# EAGLE library part PCM1690DCA (library 2024-09-14_08-16-16_Library)
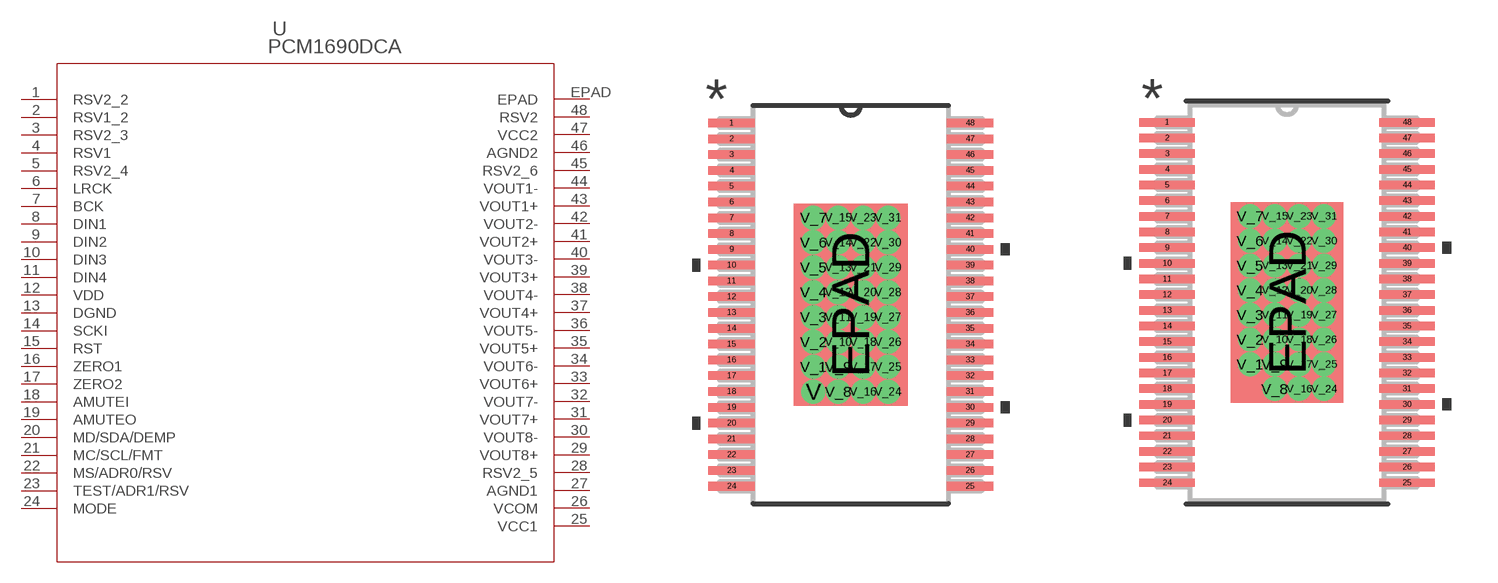
[diagram p0: symbol with the pads of DCA48_6P4X3P6; footprints DCA48_6P4X3P6, DCA48_6P4X3P6-M]

Designator prefix U

## PCM1690DCADCA48_6P4X3P6 (Copyright: Copyright (C) 2024 Ultra Librarian. All rights reserved.; Manufacturer_Part_Number: PCM1690DCA; Mfr_Name: Texas Instruments)  [DCA48_6P4X3P6]
1  RSV2_2  pas
2  RSV1_2  pas
3  RSV2_3  pas
4  RSV1  pas
5  RSV2_4  pas
6  LRCK  in
7  BCK  in
8  DIN1  in
9  DIN2  in
10  DIN3  in
11  DIN4  in
12  VDD  pwr
13  DGND  pwr
14  SCKI  in
15  RST  in
16  ZERO1  out
17  ZERO2  out
18  AMUTEI  in
19  AMUTEO  out
20  MD/SDA/DEMP
21  MC/SCL/FMT  in
22  MS/ADR0/RSV  in
23  TEST/ADR1/RSV
24  MODE  in
25  VCC1  pwr
26  VCOM  pwr
27  AGND1  pwr
28  RSV2_5  pas
29  VOUT8+  out
30  VOUT8-  out
31  VOUT7+  out
32  VOUT7-  out
33  VOUT6+  out
34  VOUT6-  out
35  VOUT5+  out
36  VOUT5-  out
37  VOUT4+  out
38  VOUT4-  out
39  VOUT3+  out
40  VOUT3-  out
41  VOUT2+  out
42  VOUT2-  out
43  VOUT1+  out
44  VOUT1-  out
45  RSV2_6  pas
46  AGND2  pwr
47  VCC2  pwr
48  RSV2  pas
EPAD  EPAD  pas

## PCM1690DCADCA48_6P4X3P6-M (Copyright: Copyright (C) 2024 Ultra Librarian. All rights reserved.; Manufacturer_Part_Number: PCM1690DCA; Mfr_Name: Texas Instruments)  [DCA48_6P4X3P6-M]
Pads as for DCA48_6P4X3P6

## PCM1690DCADCA48_6P4X3P6-L (Copyright: Copyright (C) 2024 Ultra Librarian. All rights reserved.; Manufacturer_Part_Number: PCM1690DCA; Mfr_Name: Texas Instruments)  [DCA48_6P4X3P6-L]
Pads as for DCA48_6P4X3P6

## Footprint DCA48_6P4X3P6 (pad centres in mm)
smd 1.461 x 0.27: 1 -3.775,5.75; 2 -3.775,5.25; 3 -3.775,4.75; 4 -3.775,4.25; 5 -3.775,3.75; 6 -3.775,3.25; 7 -3.775,2.75; 8 -3.775,2.25; 9 -3.775,1.75; 10 -3.775,1.25; 11 -3.775,0.75; 12 -3.775,0.25; 13 -3.775,-0.25; 14 -3.775,-0.75; 15 -3.775,-1.25; 16 -3.775,-1.75; 17 -3.775,-2.25; 18 -3.775,-2.75; 19 -3.775,-3.25; 20 -3.775,-3.75; 21 -3.775,-4.25; 22 -3.775,-4.75; 23 -3.775,-5.25; 24 -3.775,-5.75; 25 3.775,-5.75; 26 3.775,-5.25; 27 3.775,-4.75; 28 3.775,-4.25; 29 3.775,-3.75; 30 3.775,-3.25; 31 3.775,-2.75; 32 3.775,-2.25; 33 3.775,-1.75; 34 3.775,-1.25; 35 3.775,-0.75; 36 3.775,-0.25; 37 3.775,0.25; 38 3.775,0.75; 39 3.775,1.25; 40 3.775,1.75; 41 3.775,2.25; 42 3.775,2.75; 43 3.775,3.25; 44 3.775,3.75; 45 3.775,4.25; 46 3.775,4.75; 47 3.775,5.25; 48 3.775,5.75
smd 3.6 x 6.4: EPAD 0,0
drill 0.254 pad 0.508 round: V -1.181,-2.756; V_1 -1.181,-1.968; V_2 -1.181,-1.181; V_3 -1.181,-0.394; V_4 -1.181,0.394; V_5 -1.181,1.181; V_6 -1.181,1.968; V_7 -1.181,2.756; V_8 -0.394,-2.756; V_9 -0.394,-1.968; V_10 -0.394,-1.181; V_11 -0.394,-0.394; V_12 -0.394,0.394; V_13 -0.394,1.181; V_14 -0.394,1.968; V_15 -0.394,2.756; V_16 0.394,-2.756; V_17 0.394,-1.968; V_18 0.394,-1.181; V_19 0.394,-0.394; V_20 0.394,0.394; V_21 0.394,1.181; V_22 0.394,1.968; V_23 0.394,2.756; V_24 1.181,-2.756; V_25 1.181,-1.968; V_26 1.181,-1.181; V_27 1.181,-0.394; V_28 1.181,0.394; V_29 1.181,1.181; V_30 1.181,1.968; V_31 1.181,2.756

## Footprint DCA48_6P4X3P6-M (pad centres in mm)
smd 1.766 x 0.27: 1 -3.826,5.75; 2 -3.826,5.25; 3 -3.826,4.75; 4 -3.826,4.25; 5 -3.826,3.75; 6 -3.826,3.25; 7 -3.826,2.75; 8 -3.826,2.25; 9 -3.826,1.75; 10 -3.826,1.25; 11 -3.826,0.75; 12 -3.826,0.25; 13 -3.826,-0.25; 14 -3.826,-0.75; 15 -3.826,-1.25; 16 -3.826,-1.75; 17 -3.826,-2.25; 18 -3.826,-2.75; 19 -3.826,-3.25; 20 -3.826,-3.75; 21 -3.826,-4.25; 22 -3.826,-4.75; 23 -3.826,-5.25; 24 -3.826,-5.75; 25 3.826,-5.75; 26 3.826,-5.25; 27 3.826,-4.75; 28 3.826,-4.25; 29 3.826,-3.75; 30 3.826,-3.25; 31 3.826,-2.75; 32 3.826,-2.25; 33 3.826,-1.75; 34 3.826,-1.25; 35 3.826,-0.75; 36 3.826,-0.25; 37 3.826,0.25; 38 3.826,0.75; 39 3.826,1.25; 40 3.826,1.75; 41 3.826,2.25; 42 3.826,2.75; 43 3.826,3.25; 44 3.826,3.75; 45 3.826,4.25; 46 3.826,4.75; 47 3.826,5.25; 48 3.826,5.75
smd 3.6 x 6.4: EPAD 0,0
drill 0.254 pad 0.508 round: V_1 -1.181,-1.968; V_2 -1.181,-1.181; V_3 -1.181,-0.394; V_4 -1.181,0.394; V_5 -1.181,1.181; V_6 -1.181,1.968; V_7 -1.181,2.756; V_8 -0.394,-2.756; V_9 -0.394,-1.968; V_10 -0.394,-1.181; V_11 -0.394,-0.394; V_12 -0.394,0.394; V_13 -0.394,1.181; V_14 -0.394,1.968; V_15 -0.394,2.756; V_16 0.394,-2.756; V_17 0.394,-1.968; V_18 0.394,-1.181; V_19 0.394,-0.394; V_20 0.394,0.394; V_21 0.394,1.181; V_22 0.394,1.968; V_23 0.394,2.756; V_24 1.181,-2.756; V_25 1.181,-1.968; V_26 1.181,-1.181; V_27 1.181,-0.394; V_28 1.181,0.394; V_29 1.181,1.181; V_30 1.181,1.968; V_31 1.181,2.756

## Footprint DCA48_6P4X3P6-L (pad centres in mm)
smd 1.156 x 0.219: 1 -3.724,5.75; 2 -3.724,5.25; 3 -3.724,4.75; 4 -3.724,4.25; 5 -3.724,3.75; 6 -3.724,3.25; 7 -3.724,2.75; 8 -3.724,2.25; 9 -3.724,1.75; 10 -3.724,1.25; 11 -3.724,0.75; 12 -3.724,0.25; 13 -3.724,-0.25; 14 -3.724,-0.75; 15 -3.724,-1.25; 16 -3.724,-1.75; 17 -3.724,-2.25; 18 -3.724,-2.75; 19 -3.724,-3.25; 20 -3.724,-3.75; 21 -3.724,-4.25; 22 -3.724,-4.75; 23 -3.724,-5.25; 24 -3.724,-5.75; 25 3.724,-5.75; 26 3.724,-5.25; 27 3.724,-4.75; 28 3.724,-4.25; 29 3.724,-3.75; 30 3.724,-3.25; 31 3.724,-2.75; 32 3.724,-2.25; 33 3.724,-1.75; 34 3.724,-1.25; 35 3.724,-0.75; 36 3.724,-0.25; 37 3.724,0.25; 38 3.724,0.75; 39 3.724,1.25; 40 3.724,1.75; 41 3.724,2.25; 42 3.724,2.75; 43 3.724,3.25; 44 3.724,3.75; 45 3.724,4.25; 46 3.724,4.75; 47 3.724,5.25; 48 3.724,5.75
smd 3.6 x 6.4: EPAD 0,0
drill 0.254 pad 0.508 round: V_1 -1.181,-1.968; V_2 -1.181,-1.181; V_3 -1.181,-0.394; V_4 -1.181,0.394; V_5 -1.181,1.181; V_6 -1.181,1.968; V_7 -1.181,2.756; V_8 -0.394,-2.756; V_9 -0.394,-1.968; V_10 -0.394,-1.181; V_11 -0.394,-0.394; V_12 -0.394,0.394; V_13 -0.394,1.181; V_14 -0.394,1.968; V_15 -0.394,2.756; V_16 0.394,-2.756; V_17 0.394,-1.968; V_18 0.394,-1.181; V_19 0.394,-0.394; V_20 0.394,0.394; V_21 0.394,1.181; V_22 0.394,1.968; V_23 0.394,2.756; V_24 1.181,-2.756; V_25 1.181,-1.968; V_26 1.181,-1.181; V_27 1.181,-0.394; V_28 1.181,0.394; V_29 1.181,1.181; V_30 1.181,1.968; V_31 1.181,2.756